# EAGLE library part 164A19919X (library conec)
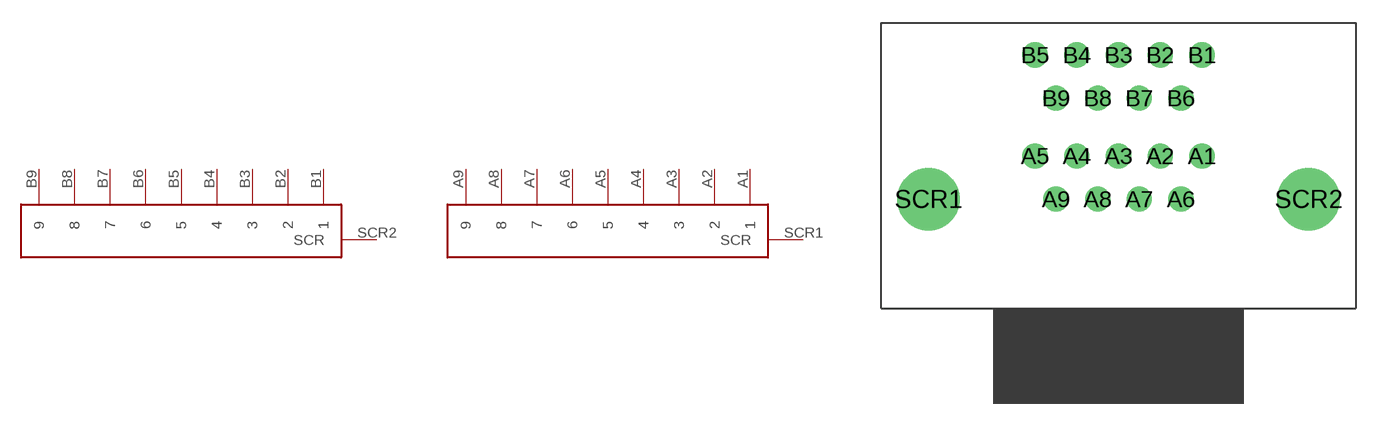
[diagram p2: symbol with the pads of 164A19919X; footprint 164A19919X]

Designator prefix -; gates A=DSUB B=DSUB

## 164A19919X  [164A19919X]
A1  A:1
A2  A:2
A3  A:3
A4  A:4
A5  A:5
A6  A:6
A7  A:7
A8  A:8
A9  A:9
B1  B:1
B2  B:2
B3  B:3
B4  B:4
B5  B:5
B6  B:6
B7  B:7
B8  B:8
B9  B:9
SCR1  A:SCR
SCR2  B:SCR

## Footprint 164A19919X (pad centres in mm)
drill 1.1: A1 5.49,2.84; A2 2.74,2.84; A3 0,2.84; A4 -2.74,2.84; A5 -5.49,2.84; A6 4.11,0; A7 1.37,0; A8 -1.37,0; A9 -4.11,0; B1 5.49,9.49; B2 2.74,9.49; B3 0,9.49; B4 -2.74,9.49; B5 -5.49,9.49; B6 4.11,6.65; B7 1.37,6.65; B8 -1.37,6.65; B9 -4.11,6.65
drill 3.1: SCR1 -12.5,0; SCR2 12.5,0